# Altium schematic symbol library GRM033R71H102MA12D.SchLib: 1 symbol
Pins are listed as number, name and electrical type; pins without a type are passive.

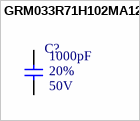
[diagram p0: symbol GRM033R71H102MA12D]

## GRM033R71H102MA12D
designator C?  Rated Voltage: 50V  Tolerance: 20%  Capacitence: 1000pF  (hidden comment: GRM033R71H102MA12D)
Multilayer Ceramic Capacitors MLCC - SMD/SMT 0201 1000pF 50volts X7R 20% /; MFR: Murata Electronics; PN: GRM033R71H102MA12D; ComponentLink1Description: Datasheet; ComponentLink1URL: https://www.mouser.ca/datasheet/2/281/1/GRM033R71H102MA12_01A-1982179.pdf; Temperature Coefficient: X7R; Package: 0201; Footprint: C0201; Supplier 1: Mouser; Supplier Part Number 1: 81-GRM033R71H102MA2D
footprint C0201
pins: 1, 2